# EAGLE library part ESP32-WROVER-B_(16MB) (library epoch)
WiFi SMD Module, ESP32-WROVER-B, 16MB Flash memory
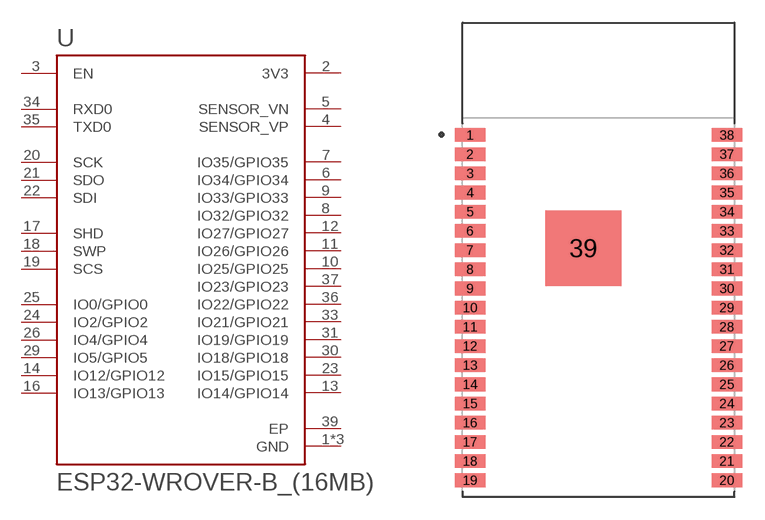
[diagram p7: symbol with the pads of XCVR_ESP32-WROVER-B_(16MB); footprint XCVR_ESP32-WROVER-B_(16MB)]

Designator prefix U

## ESP32-WROVER-B_(16MB) (AVAILABILITY: Unavailable; DESCRIPTION: Generic WiFi-BT-BLE MCU module. Flash memory of 16 MB and PSRAM of 8 MB; MF: Espressif Systems; MP: ESP32-WROVER-B _16MB_; PACKAGE: None; PRICE: None)  [XCVR_ESP32-WROVER-B_(16MB)]
1  GND  pwr
2  3V3  pwr
3  EN  in
4  SENSOR_VP
5  SENSOR_VN
6  IO34/GPIO34
7  IO35/GPIO35
8  IO32/GPIO32
9  IO33/GPIO33
10  IO25/GPIO25
11  IO26/GPIO26
12  IO27/GPIO27
13  IO14/GPIO14
14  IO12/GPIO12
15  GND  pwr
16  IO13/GPIO13
17  SHD
18  SWP
19  SCS
20  SCK
21  SDO
22  SDI
23  IO15/GPIO15
24  IO2/GPIO2
25  IO0/GPIO0
26  IO4/GPIO4
29  IO5/GPIO5
30  IO18/GPIO18
31  IO19/GPIO19
33  IO21/GPIO21
34  RXD0
35  TXD0
36  IO22/GPIO22
37  IO23/GPIO23
38  GND  pwr
39  EP  pwr

## Footprint XCVR_ESP32-WROVER-B_(16MB) (pad centres in mm)
smd 2 x 0.9: 1 -8.5,8.26; 2 -8.5,6.99; 3 -8.5,5.72; 4 -8.5,4.45; 5 -8.5,3.18; 6 -8.5,1.91; 7 -8.5,0.64; 8 -8.5,-0.63; 9 -8.5,-1.9; 10 -8.5,-3.17; 11 -8.5,-4.44; 12 -8.5,-5.71; 13 -8.5,-6.98; 14 -8.5,-8.25; 15 -8.5,-9.52; 16 -8.5,-10.79; 17 -8.5,-12.06; 18 -8.5,-13.33; 19 -8.5,-14.6; 20 8.5,-14.6; 21 8.5,-13.33; 22 8.5,-12.06; 23 8.5,-10.79; 24 8.5,-9.52; 25 8.5,-8.25; 26 8.5,-6.98; 27 8.5,-5.71; 28 8.5,-4.44; 29 8.5,-3.17; 30 8.5,-1.9; 31 8.5,-0.63; 32 8.5,0.64; 33 8.5,1.91; 34 8.5,3.18; 35 8.5,4.45; 36 8.5,5.72; 37 8.5,6.99; 38 8.5,8.26
smd 5 x 5: 39 -1,0.76